# EAGLE library part 8484-21B1-RK-TP (library SamacSys_Parts)
IC & Component Sockets 84P PLCC SOCKET SMT W/O LOC POSTS Source: Datasheet
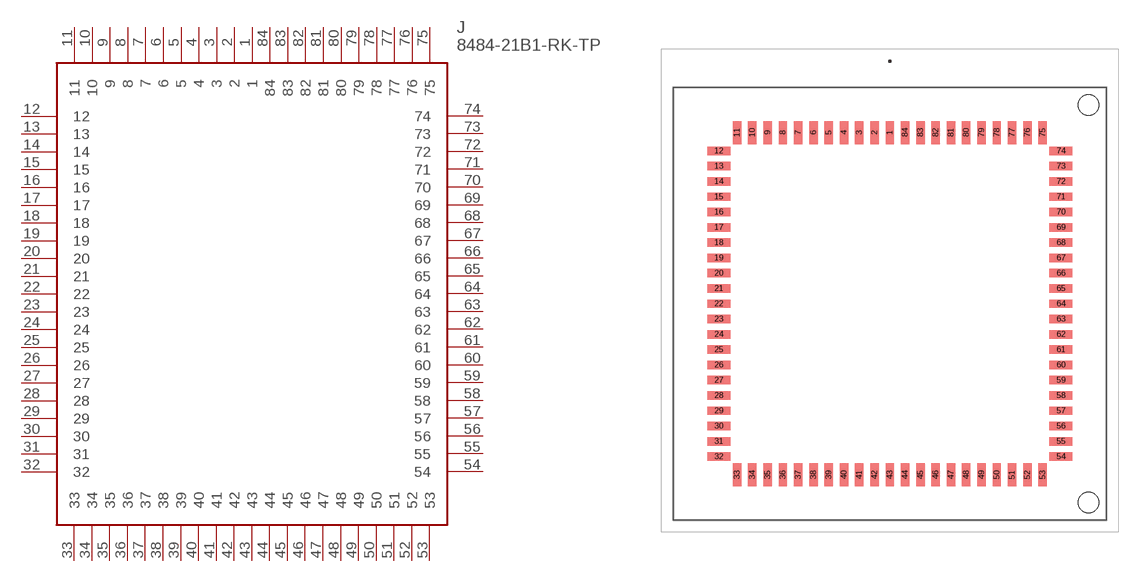
[diagram p203: symbol with the pads of 848421B1RKTP; footprint 848421B1RKTP]

Designator prefix J

## 8484-21B1-RK-TP (DESCRIPTION: IC & Component Sockets 84P PLCC SOCKET SMT W/O LOC POSTS; HEIGHT: 4.6mm; MANUFACTURER_NAME: 3M; MANUFACTURER_PART_NUMBER: 8484-21B1-RK-TP; MOUSER_PART_NUMBER: 517-8484-21B1-RK-TP; MOUSER_PRICE-STOCK: https://www.mouser.co.uk/ProductDetail/3M-Electronic-Solutions-Division/8484-21B1-RK-TP?qs=WZRMhwwaLl9l%2F%2FO6ipJKVw%3D%3D)  [848421B1RKTP]
1  1
2  2
3  3
4  4
5  5
6  6
7  7
8  8
9  9
10  10
11  11
12  12
13  13
14  14
15  15
16  16
17  17
18  18
19  19
20  20
21  21
22  22
23  23
24  24
25  25
26  26
27  27
28  28
29  29
30  30
31  31
32  32
33  33
34  34
35  35
36  36
37  37
38  38
39  39
40  40
41  41
42  42
43  43
44  44
45  45
46  46
47  47
48  48
49  49
50  50
51  51
52  52
53  53
54  54
55  55
56  56
57  57
58  58
59  59
60  60
61  61
62  62
63  63
64  64
65  65
66  66
67  67
68  68
69  69
70  70
71  71
72  72
73  73
74  74
75  75
76  76
77  77
78  78
79  79
80  80
81  81
82  82
83  83
84  84

## Footprint 848421B1RKTP (pad centres in mm)
8484-21B1-RK-TP-3
smd 0.7 x 1.91: 1 0,14.22; 2 -1.27,14.22; 3 -2.54,14.22; 4 -3.81,14.22; 5 -5.08,14.22; 6 -6.35,14.22; 7 -7.62,14.22; 8 -8.89,14.22; 9 -10.16,14.22; 10 -11.43,14.22; 11 -12.7,14.22; 33 -12.7,-14.22; 34 -11.43,-14.22; 35 -10.16,-14.22; 36 -8.89,-14.22; 37 -7.62,-14.22; 38 -6.35,-14.22; 39 -5.08,-14.22; 40 -3.81,-14.22; 41 -2.54,-14.22; 42 -1.27,-14.22; 43 0,-14.22; 44 1.27,-14.22; 45 2.54,-14.22; 46 3.81,-14.22; 47 5.08,-14.22; 48 6.35,-14.22; 49 7.62,-14.22; 50 8.89,-14.22; 51 10.16,-14.22; 52 11.43,-14.22; 53 12.7,-14.22; 75 12.7,14.22; 76 11.43,14.22; 77 10.16,14.22; 78 8.89,14.22; 79 7.62,14.22; 80 6.35,14.22; 81 5.08,14.22; 82 3.81,14.22; 83 2.54,14.22; 84 1.27,14.22
smd 1.91 x 0.7: 12 -14.22,12.7; 13 -14.22,11.43; 14 -14.22,10.16; 15 -14.22,8.89; 16 -14.22,7.62; 17 -14.22,6.35; 18 -14.22,5.08; 19 -14.22,3.81; 20 -14.22,2.54; 21 -14.22,1.27; 22 -14.22,0; 23 -14.22,-1.27; 24 -14.22,-2.54; 25 -14.22,-3.81; 26 -14.22,-5.08; 27 -14.22,-6.35; 28 -14.22,-7.62; 29 -14.22,-8.89; 30 -14.22,-10.16; 31 -14.22,-11.43; 32 -14.22,-12.7; 54 14.22,-12.7; 55 14.22,-11.43; 56 14.22,-10.16; 57 14.22,-8.89; 58 14.22,-7.62; 59 14.22,-6.35; 60 14.22,-5.08; 61 14.22,-3.81; 62 14.22,-2.54; 63 14.22,-1.27; 64 14.22,0; 65 14.22,1.27; 66 14.22,2.54; 67 14.22,3.81; 68 14.22,5.08; 69 14.22,6.35; 70 14.22,7.62; 71 14.22,8.89; 72 14.22,10.16; 73 14.22,11.43; 74 14.22,12.7
hole 1.7 at 16.51,-16.51
hole 1.7 at 16.51,16.51